# Altium footprint library USB4145-03-0230-C_REVA2.PCBLIB: 1 footprints
Each footprint in its own frame and in the unit in brackets; x right, y up, seen from the top. Pads: shape width x height; smd on the part's side, far side on the other; paste and mask are expansions set on the pad; w line width, h text height; cw(c..) or ccw(c..) is an arc to the next point about the centre after c.
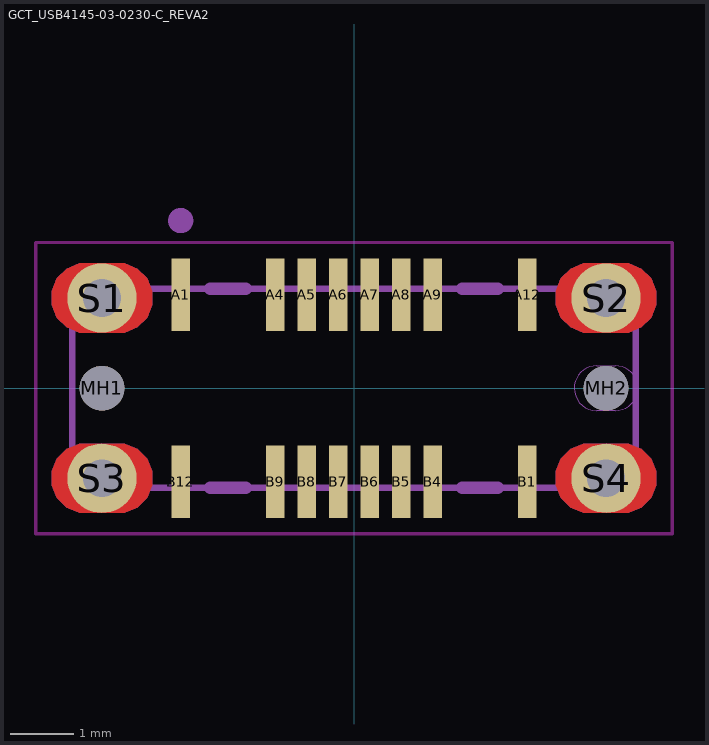
[diagram p0: the footprint, top view; thin cyan lines are the x and y axes]

## GCT_USB4145-03-0230-C_REVA2 [mm]
pads (22):
  rect 0.3x1.15 smd: A1(-2.75,1.485) A4(-1.25,1.485) A5(-0.75,1.485) A6(-0.25,1.485) A7(0.25,1.485) A8(0.75,1.485) A9(1.25,1.485) A12(2.75,1.485) B1(2.75,-1.485) B4(1.25,-1.485) B5(0.75,-1.485) B6(0.25,-1.485) B7(-0.25,-1.485) B8(-0.75,-1.485) B9(-1.25,-1.485) B12(-2.75,-1.485)
  round 0.71 hole 0.71 unplated: MH1(-4,0) MH2(4,0)
  round 1.1 hole 0.6: S1(-4,1.43) S2(4,1.43) S3(-4,-1.43) S4(4,-1.43)
Top:
  region: -4.8,1.43 -4.8,1.539 -4.716,1.742 -4.562,1.896 -4.359,1.98 -4.25,1.98 -3.75,1.98 -3.641,1.98 -3.438,1.896 -3.284,1.742 -3.2,1.539 -3.2,1.43 -3.2,1.321 -3.284,1.118 -3.438,0.964 -3.641,0.88 -3.75,0.88 -4.25,0.88 -4.359,0.88 -4.562,0.964 -4.716,1.118 -4.8,1.321 -4.8,1.43
  region: 3.2,1.43 3.2,1.539 3.284,1.742 3.438,1.896 3.641,1.98 3.75,1.98 4.25,1.98 4.359,1.98 4.562,1.896 4.716,1.742 4.8,1.539 4.8,1.43 4.8,1.321 4.716,1.118 4.562,0.964 4.359,0.88 4.25,0.88 3.75,0.88 3.641,0.88 3.438,0.964 3.284,1.118 3.2,1.321 3.2,1.43
  region: -4.8,-1.43 -4.8,-1.321 -4.716,-1.118 -4.562,-0.964 -4.359,-0.88 -4.25,-0.88 -3.75,-0.88 -3.641,-0.88 -3.438,-0.964 -3.284,-1.118 -3.2,-1.321 -3.2,-1.43 -3.2,-1.539 -3.284,-1.742 -3.438,-1.896 -3.641,-1.98 -3.75,-1.98 -4.25,-1.98 -4.359,-1.98 -4.562,-1.896 -4.716,-1.742 -4.8,-1.539 -4.8,-1.43
  region: 3.2,-1.43 3.2,-1.321 3.284,-1.118 3.438,-0.964 3.641,-0.88 3.75,-0.88 4.25,-0.88 4.359,-0.88 4.562,-0.964 4.716,-1.118 4.8,-1.321 4.8,-1.43 4.8,-1.539 4.716,-1.742 4.562,-1.896 4.359,-1.98 4.25,-1.98 3.75,-1.98 3.641,-1.98 3.438,-1.896 3.284,-1.742 3.2,-1.539 3.2,-1.43
Top keep-out:
  lines w0.05: -5.05,-2.31 -5.05,2.31 5.05,2.31 5.05,-2.31 -5.05,-2.31
Bottom:
  region: -4.8,1.43 -4.8,1.539 -4.716,1.742 -4.562,1.896 -4.359,1.98 -4.25,1.98 -3.75,1.98 -3.641,1.98 -3.438,1.896 -3.284,1.742 -3.2,1.539 -3.2,1.43 -3.2,1.321 -3.284,1.118 -3.438,0.964 -3.641,0.88 -3.75,0.88 -4.25,0.88 -4.359,0.88 -4.562,0.964 -4.716,1.118 -4.8,1.321 -4.8,1.43
  region: 3.2,1.43 3.2,1.539 3.284,1.742 3.438,1.896 3.641,1.98 3.75,1.98 4.25,1.98 4.359,1.98 4.562,1.896 4.716,1.742 4.8,1.539 4.8,1.43 4.8,1.321 4.716,1.118 4.562,0.964 4.359,0.88 4.25,0.88 3.75,0.88 3.641,0.88 3.438,0.964 3.284,1.118 3.2,1.321 3.2,1.43
  region: -4.8,-1.43 -4.8,-1.321 -4.716,-1.118 -4.562,-0.964 -4.359,-0.88 -4.25,-0.88 -3.75,-0.88 -3.641,-0.88 -3.438,-0.964 -3.284,-1.118 -3.2,-1.321 -3.2,-1.43 -3.2,-1.539 -3.284,-1.742 -3.438,-1.896 -3.641,-1.98 -3.75,-1.98 -4.25,-1.98 -4.359,-1.98 -4.562,-1.896 -4.716,-1.742 -4.8,-1.539 -4.8,-1.43
  region: 3.2,-1.43 3.2,-1.321 3.284,-1.118 3.438,-0.964 3.641,-0.88 3.75,-0.88 4.25,-0.88 4.359,-0.88 4.562,-0.964 4.716,-1.118 4.8,-1.321 4.8,-1.43 4.8,-1.539 4.716,-1.742 4.562,-1.896 4.359,-1.98 4.25,-1.98 3.75,-1.98 3.641,-1.98 3.438,-1.896 3.284,-1.742 3.2,-1.539 3.2,-1.43
Top Solder:
  drawing of 4 lines, arcs and shapes, not listed
Bottom Solder:
  drawing of 4 lines, arcs and shapes, not listed
Milling:
  lines w0: -4.55,-1.43 cw(c-4.25,-1.43) -4.25,-1.13 -3.75,-1.13 cw(c-3.75,-1.43) -3.45,-1.43 cw(c-3.75,-1.43) -3.75,-1.73 -4.25,-1.73 cw(c-4.25,-1.43) -4.55,-1.43 ; -4.55,1.43 cw(c-4.25,1.43) -4.25,1.73 -3.75,1.73 cw(c-3.75,1.43) -3.45,1.43 cw(c-3.75,1.43) -3.75,1.13 -4.25,1.13 cw(c-4.25,1.43) -4.55,1.43 ; 3.45,-1.43 cw(c3.75,-1.43) 3.75,-1.13 4.25,-1.13 cw(c4.25,-1.43) 4.55,-1.43 cw(c4.25,-1.43) 4.25,-1.73 3.75,-1.73 cw(c3.75,-1.43) 3.45,-1.43 ; 3.45,1.43 cw(c3.75,1.43) 3.75,1.73 4.25,1.73 cw(c4.25,1.43) 4.55,1.43 cw(c4.25,1.43) 4.25,1.13 3.75,1.13 cw(c3.75,1.43) 3.45,1.43 ; 3.495,0 ccw(c3.85,0) 3.85,-0.355 4.15,-0.355 ccw(c4.15,0) 4.505,0 ccw(c4.15,0) 4.15,0.355 3.85,0.355 ccw(c3.85,0) 3.495,0
tDocu:
  circle w0.2: c-2.75,2.66 r0.1
  lines w0.1: -4.47,-1.58 -4.47,1.58 4.47,1.58 4.47,-1.58 -4.47,-1.58
tPlace:
  circle w0.2: c-2.75,2.66 r0.1
  lines w0.2: -2.28,-1.58 -1.72,-1.58 ; -2.28,1.58 -1.72,1.58 ; 1.72,-1.58 2.28,-1.58 ; 1.72,1.58 2.28,1.58